# Altium footprint library ESD7008MUTAG.PcbLib: 1 footprints
Each footprint in its own frame and in the unit in brackets; x right, y up, seen from the top. Pads: shape width x height; smd on the part's side, far side on the other; paste and mask are expansions set on the pad; w line width, h text height; cw(c..) or ccw(c..) is an arc to the next point about the centre after c.
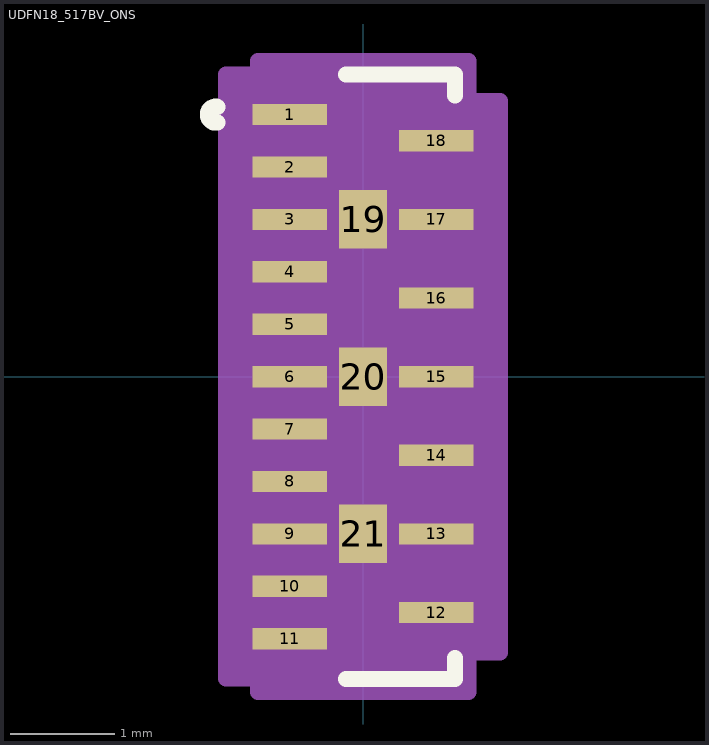
[diagram p0: the footprint, top view; thin cyan lines are the x and y axes]

## UDFN18_517BV_ONS [mil]
pads (21):
  rect 28x8 smd paste+0 mask+0: 1(-27.5,98.43) 2(-27.5,78.74) 3(-27.5,59.06) 4(-27.5,39.37) 5(-27.5,19.68) 6(-27.5,0) 7(-27.5,-19.68) 8(-27.5,-39.37) 9(-27.5,-59.06) 10(-27.5,-78.74) 11(-27.5,-98.43) 12(27.5,-88.58) 13(27.5,-59.06) 14(27.5,-29.53) 15(27.5,0) 16(27.5,29.53) 17(27.5,59.06) 18(27.5,88.58)
  rect 18x22 smd paste+0 mask+0: 19(0,59.06) 20(0,0) 21(0,-59.06)
Top Overlay:
  lines w6: -54.6,95.52 cw(c-55.34,98.43) -54.6,101.33 ; -6.5,-113.5 34.5,-113.5 34.5,-105.68 ; -6.5,113.5 34.5,113.5 34.5,105.68
  text ".Designator" at -137.5,-25 h50
Mechanical 13:
  circle w1: c-13.5,98.43 r3
  lines w1: -12,108.5 ccw(c0,108.5) 12,108.5 ; -29.5,-108.5 29.5,-108.5 29.5,108.5 -29.5,108.5 -29.5,-108.5
  text ".Designator" at -137.5,-25 h50
Mechanical 15:
  region: 39.5,-118.5 -39.5,-118.5 -39.5,-113.43 -51.5,-113.43 -51.5,113.43 -39.5,113.43 -39.5,118.5 39.5,118.5 39.5,103.58 51.5,103.58 51.5,-103.58 39.5,-103.58
  lines w6: -51.5,-113.43 -39.5,-113.43 -39.5,-118.5 39.5,-118.5 39.5,-103.58 51.5,-103.58 51.5,103.58 39.5,103.58 39.5,118.5 -39.5,118.5 -39.5,113.43 -51.5,113.43 -51.5,-113.43